# EAGLE library part MODEL1521ACCEL (library JOSIAHLIB)
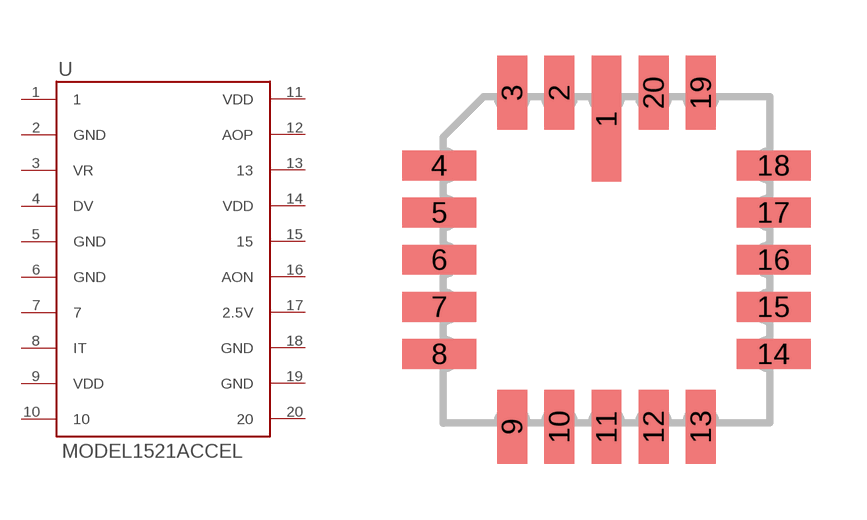
[diagram p6: symbol with the pads of LCC20; footprint LCC20]

Designator prefix U

## MODEL1521ACCEL  [LCC20]
1  1
2  GND
3  VR
4  DV
5  GND
6  GND
7  7
8  IT
9  VDD
10  10
11  VDD
12  AOP
13  13
14  VDD
15  15
16  AON
17  2.5V
18  GND
19  GND
20  20

## Footprint LCC20 (pad centres in mm)
LCC 20 Leadless Chip Carrier Ceramic Package
smd 0.8 x 3.4: 1 0,3.8
smd 0.8 x 2: 2 -1.27,4.5; 3 -2.54,4.5; 9 -2.54,-4.5; 10 -1.27,-4.5; 11 0,-4.5; 12 1.27,-4.5; 13 2.54,-4.5; 19 2.54,4.5; 20 1.27,4.5
smd 2 x 0.8: 4 -4.5,2.54; 5 -4.5,1.27; 6 -4.5,0; 7 -4.5,-1.27; 8 -4.5,-2.54; 14 4.5,-2.54; 15 4.5,-1.27; 16 4.5,0; 17 4.5,1.27; 18 4.5,2.54